# EAGLE library part DIP04S (library usb-helper)
DIL/CODE SWITCH
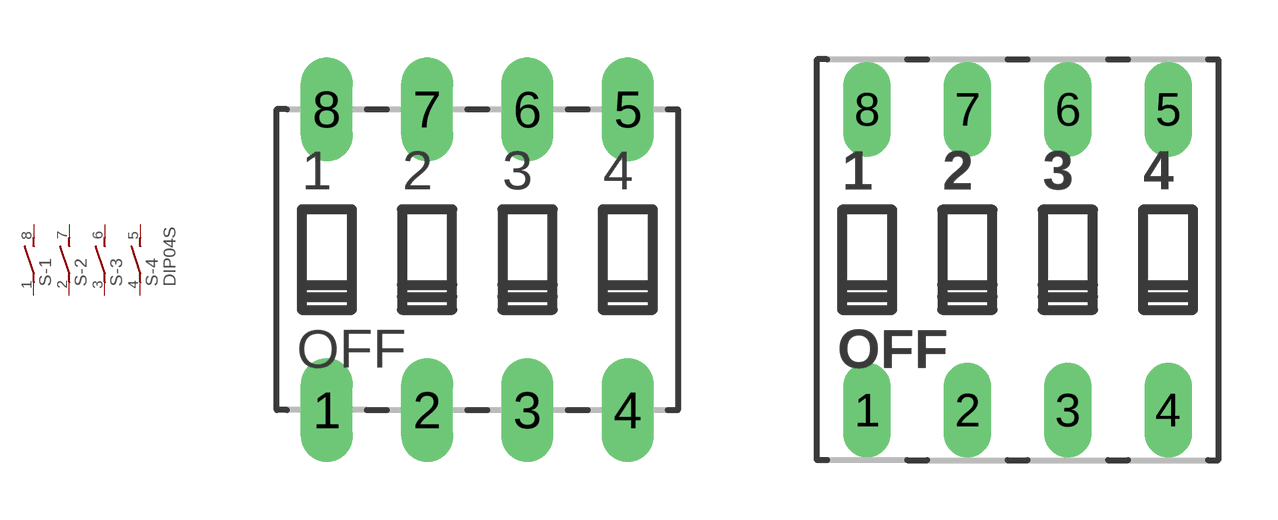
[diagram p0: symbol with the pads of DIP04S; footprints DIP04S, DIP_04_SECME_THT]

Designator prefix S; gates -1=S -2=S -3=S -4=S+V

## DIP04S_GENERIC (OC_FARNELL: unknown; OC_NEWARK: unknown)  [DIP04S]
1  -1:1  pas
2  -2:1  pas
3  -3:1  pas
4  -4:1  pas
5  -4:2  pas
6  -3:2  pas
7  -2:2  pas
8  -1:2  pas

## DIP04S_SECME  [DIP_04_SECME_THT]
Pads as for DIP04S

## Footprint DIP04S (pad centres in mm)
DIL/CODE SWITCH small
drill 0.813 long: 1 -3.81,-3.81; 2 -1.27,-3.81; 3 1.27,-3.81; 4 3.81,-3.81; 5 3.81,3.81; 6 1.27,3.81; 7 -1.27,3.81; 8 -3.81,3.81

## Footprint DIP_04_SECME_THT (pad centres in mm)
SECME 09.22000.03 (4-fach THT) von ebay
drill 0.7 long: 1 -3.81,-3.81; 2 -1.27,-3.81; 3 1.27,-3.81; 4 3.81,-3.81; 5 3.81,3.81; 6 1.27,3.81; 7 -1.27,3.81; 8 -3.81,3.81